# EAGLE library part SA39-11SRWA (library Labops_Lib_AH)
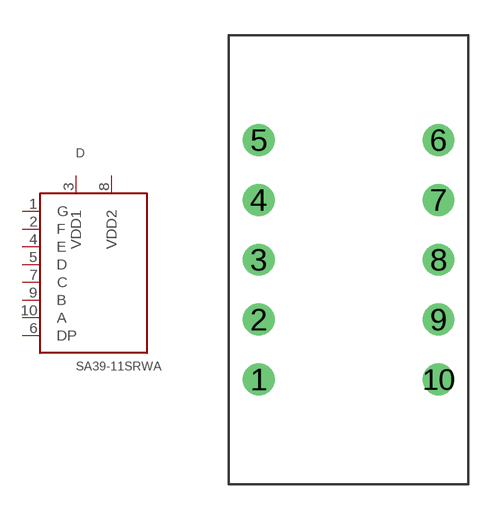
[diagram p84: symbol with the pads of PDIP10_P100MIL_750X400MIL; footprint PDIP10_P100MIL_750X400MIL]

Designator prefix D

## SA39-11SRWA  [PDIP10_P100MIL_750X400MIL]
1  G
2  F
3  VDD1
4  E
5  D
6  DP
7  C
8  VDD2
9  B
10  A

## Footprint PDIP10_P100MIL_750X400MIL (pad centres in mm)
drill 0.75 pad 1.35: 1 -3.81,-5.08; 2 -3.81,-2.54; 3 -3.81,0; 4 -3.81,2.54; 5 -3.81,5.08; 6 3.81,5.08; 7 3.81,2.54; 8 3.81,0; 9 3.81,-2.54; 10 3.81,-5.08